# Altium schematic symbol library CAP 0.10uF 25V.Schlib: 1 symbol
Pins are listed as number, name and electrical type; pins without a type are passive.

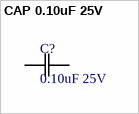
[diagram p0: symbol CAP 0.10uF 25V]

## CAP 0.10uF 25V
designator C?, comment 0.10uF 25V
CAP CER 0.10UF 25V X7R 0805; Value: 0.1uF; Tolerance: 10%; Temperature Coefficient: X7R; Rating: 25V; Operating Temperature: -55°C ~ 125°C
footprint 0805
pins: 1 C1, 2 C2